# EAGLE library part RC_FORM_FACTOR (library rc_car)
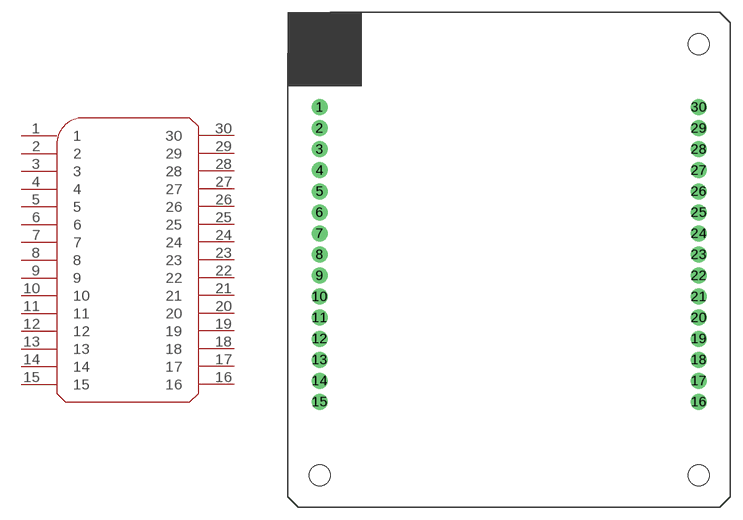
[diagram p4: symbol with the pads of RC_FORM_FACTOR; footprint RC_FORM_FACTOR]

Designator prefix -

## RC_FORM_FACTOR  [RC_FORM_FACTOR]
1  1
2  2
3  3
4  4
5  5
6  6
7  7
8  8
9  9
10  10
11  11
12  12
13  13
14  14
15  15
16  16
17  17
18  18
19  19
20  20
21  21
22  22
23  23
24  24
25  25
26  26
27  27
28  28
29  29
30  30

## Footprint RC_FORM_FACTOR (pad centres in mm)
drill 1.016 pad 1.93: 1 3.81,48.26; 2 3.81,45.72; 3 3.81,43.18; 4 3.81,40.64; 5 3.81,38.1; 6 3.81,35.56; 7 3.81,33.02; 8 3.81,30.48; 9 3.81,27.94; 10 3.81,25.4; 11 3.81,22.86; 12 3.81,20.32; 13 3.81,17.78; 14 3.81,15.24; 15 3.81,12.7; 16 49.53,12.7; 17 49.53,15.24; 18 49.53,17.78; 19 49.53,20.32; 20 49.53,22.86; 21 49.53,25.4; 22 49.53,27.94; 23 49.53,30.48; 24 49.53,33.02; 25 49.53,35.56; 26 49.53,38.1; 27 49.53,40.64; 28 49.53,43.18; 29 49.53,45.72; 30 49.53,48.26
hole 2.54 at 3.81,55.88
hole 2.54 at 3.81,3.81
hole 2.54 at 49.53,3.81
hole 2.54 at 49.53,55.88